# Altium footprint library Sumobot2kl20.PcbLib: 17 footprints (part 2 of 2)
Each footprint in its own frame and in the unit in brackets; x right, y up, seen from the top. Pads: shape width x height; smd on the part's side, far side on the other; paste and mask are expansions set on the pad; w line width, h text height; cw(c..) or ccw(c..) is an arc to the next point about the centre after c.
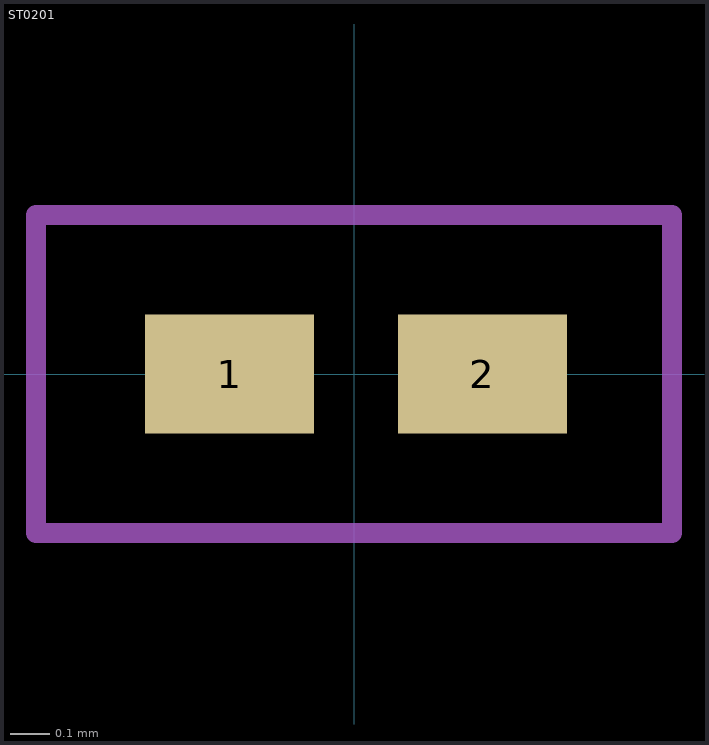
[diagram p1: the footprint, top view; thin cyan lines are the x and y axes]

## ST0201 [mm]
pads (2):
  rect 0.425x0.3 smd: 1(-0.312,0) 2(0.323,0)
Mechanical 15:
  lines w0.05: -0.8,-0.4 -0.8,0.4 0.8,0.4 0.8,-0.4 -0.8,-0.4
3D body: height 1.17, standoff -1.37, extent -0.625,0.25 -0.625,0.25
3D body: height 1.17, standoff -1.37, extent 0.55,-0.275 0.55,-0.275
3D body: height 1.17, standoff -1.37, extent -0.625,0.25 -0.625,0.25
3D body: height 0.33, standoff 0, extent -0.625,-0.25 0.65,0.25